# Altium footprint library Switches.PcbLib: 28 footprints (part 2 of 2)
Each footprint in its own frame and in the unit in brackets; x right, y up, seen from the top. Pads: shape width x height; smd on the part's side, far side on the other; paste and mask are expansions set on the pad; w line width, h text height; cw(c..) or ccw(c..) is an arc to the next point about the centre after c.
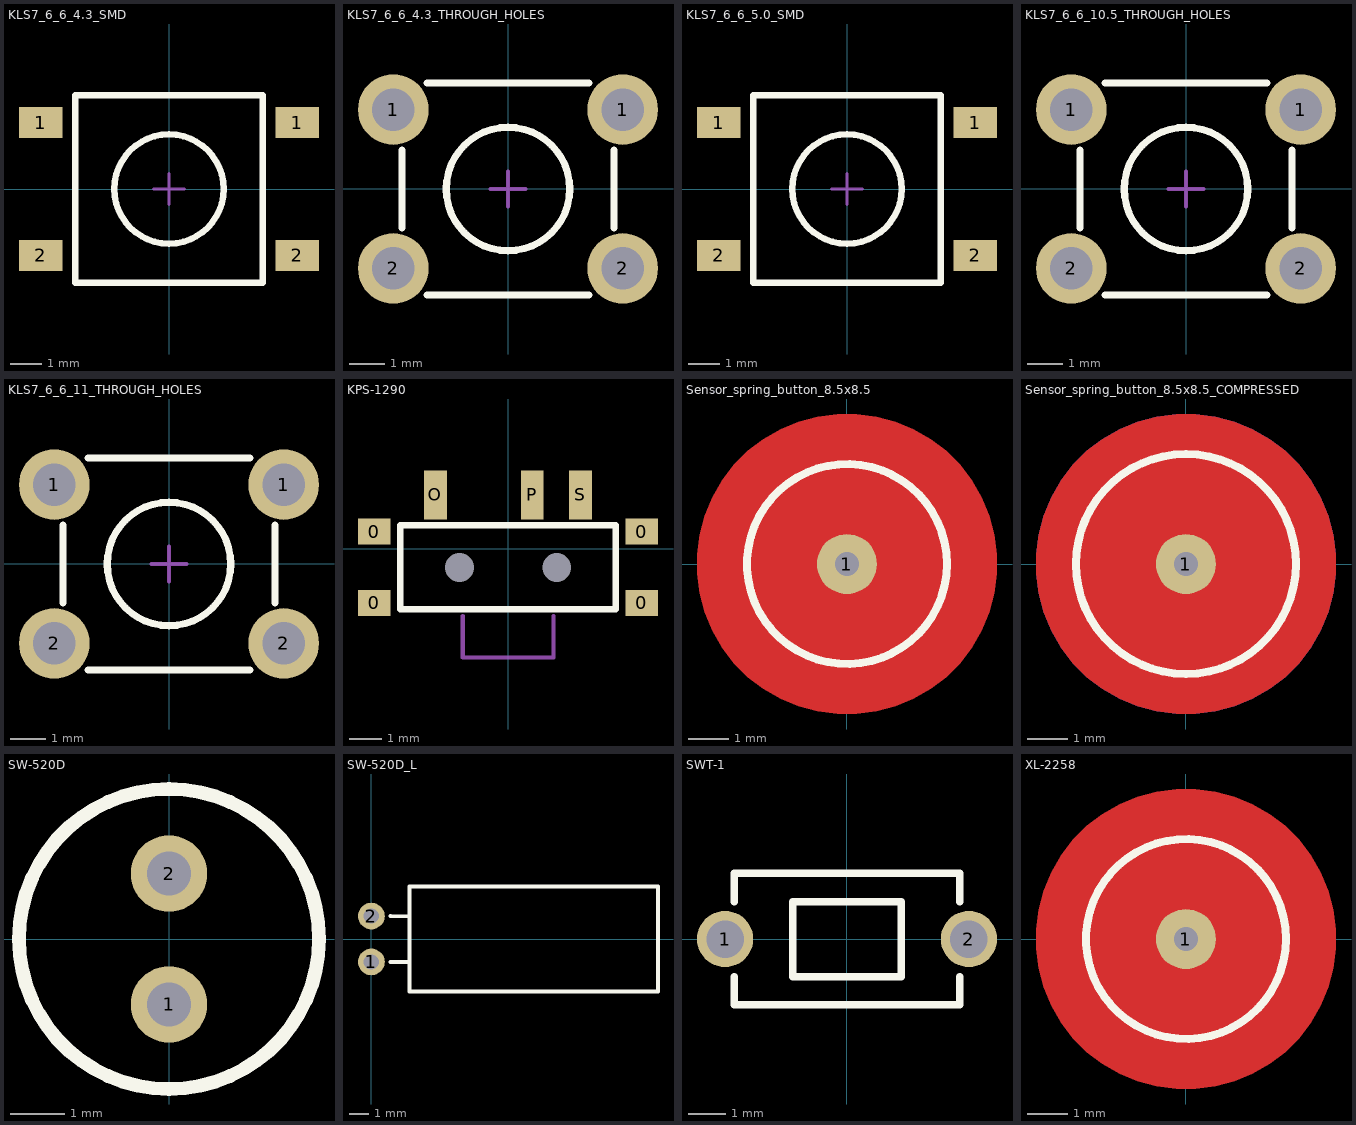
[diagram p1: the footprints below, top view; thin cyan lines are the x and y axes]

## KLS7_6_6_4.3_SMD [mm]
height 4.3
pads (4):
  rect 1.4x1 smd: 1(-4.1,2.125) 1(4.1,2.125) 2(-4.1,-2.125) 2(4.1,-2.125)
Top Overlay:
  circle w0.2: c0,0 r1.75
  lines w0.2: -3,-3 3,-3 3,3 -3,3 -3,-3
Mechanical 15:
  lines w0.1: -0.5,0 0.5,0 ; 0,-0.5 0,0.5
3D body "User Library-PTS645SL43SMTR92-LFS.STEP": height 4.3, standoff 0, extent -4.5,-3 4.5,3

## KLS7_6_6_4.3_THROUGH_HOLES [mm]
height 4.3
pads (4):
  round 2 hole 1.2: 1(-3.25,2.25) 1(3.25,2.25) 2(-3.25,-2.25) 2(3.25,-2.25)
Top Overlay:
  circle w0.2: c0,0 r1.75
  lines w0.2: -3,-1.1 -3,1.1 ; -2.3,-3 2.3,-3 ; -2.3,3 2.3,3 ; 3,-1.1 3,1.1
Mechanical 15:
  lines w0.1: -0.5,0 0.5,0 ; 0,-0.5 0,0.5
3D body "tact_switch_6x6mm3.STEP": height 4.5, standoff -3.4, extent -3.969,-3 3.969,3

## KLS7_6_6_5.0_SMD [mm]
height 5
pads (4):
  rect 1.4x1 smd: 1(-4.1,2.125) 1(4.1,2.125) 2(-4.1,-2.125) 2(4.1,-2.125)
Top Overlay:
  circle w0.2: c0,0 r1.75
  lines w0.2: -3,-3 -3,3 3,3 3,-3 -3,-3
Mechanical 15:
  lines w0.1: -0.5,0 0.5,0 ; 0,-0.5 0,0.5
3D body "User Library-PTS645SL50SMTR92-LFS.STEP": height 5, standoff 0, extent -4.5,-3 4.5,3

## KLS7_6_6_10.5_THROUGH_HOLES [mm]
height 10.5
pads (4):
  round 2 hole 1.2: 1(-3.25,2.25) 1(3.25,2.25) 2(-3.25,-2.25) 2(3.25,-2.25)
Top Overlay:
  circle w0.2: c0,0 r1.75
  lines w0.2: -3,-1.1 -3,1.1 ; -2.3,-3 2.3,-3 ; -2.3,3 2.3,3 ; 3,-1.1 3,1.1
Mechanical 15:
  lines w0.1: -0.5,0 0.5,0 ; 0,-0.5 0,0.5
3D body "tact_switch_6x6mm3.STEP": height 4.5, standoff -3.4, extent -3.969,-3 3.969,3
3D body "KLS_part_11mm.stp": height 10.5, standoff 3.8, extent -1.756,-1.75 1.744,1.75

## KLS7_6_6_11_THROUGH_HOLES [mm]
height 11
pads (4):
  round 2 hole 1.2: 1(-3.25,2.25) 1(3.25,2.25) 2(-3.25,-2.25) 2(3.25,-2.25)
Top Overlay:
  circle w0.2: c0,0 r1.75
  lines w0.2: -3,-1.1 -3,1.1 ; -2.3,-3 2.3,-3 ; -2.3,3 2.3,3 ; 3,-1.1 3,1.1
Mechanical 15:
  lines w0.1: -0.5,0 0.5,0 ; 0,-0.5 0,0.5
3D body "tact_switch_6x6mm3.STEP": height 4.5, standoff -3.4, extent -3.969,-3 3.969,3
3D body "KLS_part_11mm.stp": height 11, standoff 4.3, extent -1.756,-1.75 1.744,1.75

## KPS-1290 [mil] "KPS-1290 Движковый переключатель"
pads (9):
  rect 40x32 smd: 0(-163.69,-66.15) 0(-163.69,21.15) 0(163.69,-66.15) 0(163.69,21.15)
  round 0 hole 35.43 unplated: 1(-59.36,-22.85) 1(59.69,-22.85)
  rect 28x60 smd: O(-88.89,66.15) P(29.69,66.15) S(88.69,66.15)
Top Overlay:
  lines w8: -132.2,-74.03 131.69,-74.03 131.69,29.15 -132.2,29.15 -132.2,-74.03
Mechanical 16:
  lines w5: -55.43,-81.9 -55.43,-133.08 55.69,-133.08 55.69,-81.9
3D body "switch_kps-1290.stp": height 55.12, standoff -19.68, extent -151.88,-133.08 151.27,63.77

## Sensor_spring_button_8.5x8.5 [mm] "Sensor_spring_button_8.5x8.5"
height 8.5
pads (1):
  round 1.5 hole 0.6: 1(0,0)
Top Layer:
  pour cut-out: 0,3.75 0.246,3.75 0.733,3.686 1.208,3.558 1.662,3.37 2.088,3.125 2.478,2.825 2.825,2.478 3.125,2.088 3.37,1.662 3.559,1.208 3.686,0.733 3.75,0.245 3.75,0 3.75,-0.246 3.686,-0.733 3.559,-1.208 3.37,-1.662 3.125,-2.088 2.825,-2.478 2.478,-2.825 2.088,-3.124 1.662,-3.37 1.208,-3.558 0.733,-3.685 0.246,-3.75 0,-3.75 -0.245,-3.75 -0.733,-3.685 -1.208,-3.558 -1.662,-3.37 -2.088,-3.124 -2.478,-2.825 -2.825,-2.477 -3.124,-2.087 -3.37,-1.662 -3.558,-1.208 -3.686,-0.733 -3.75,-0.245 -3.75,0 -3.75,0.246 -3.686,0.734 -3.558,1.208 -3.37,1.662 -3.125,2.088 -2.825,2.478 -2.478,2.826 -2.088,3.125 -1.662,3.37 -1.208,3.559 -0.733,3.686 -0.246,3.75
Bottom Layer:
  pour cut-out: 0,2.5 0.246,2.5 0.729,2.404 1.184,2.215 1.594,1.942 1.942,1.594 2.215,1.184 2.404,0.729 2.5,0.246 2.5,0 2.5,-0.246 2.404,-0.729 2.215,-1.184 1.942,-1.594 1.594,-1.942 1.184,-2.215 0.729,-2.404 0.246,-2.5 0,-2.5 -0.246,-2.5 -0.729,-2.404 -1.184,-2.215 -1.593,-1.942 -1.942,-1.594 -2.215,-1.184 -2.404,-0.729 -2.5,-0.246 -2.5,0 -2.5,0.246 -2.404,0.729 -2.215,1.184 -1.942,1.594 -1.594,1.942 -1.184,2.215 -0.729,2.404 -0.246,2.5
Top Overlay:
  circle w0.2: c0,0 r2.5
3D body "Spring_8.5x8.5.STEP": height 8.43, standoff -2.81, extent -4.4,-3.976 4.117,4.251

## Sensor_spring_button_8.5x8.5_COMPRESSED [mm] "Sensor_spring_button_8.5x8.5"
height 6
pads (1):
  round 1.5 hole 0.6: 1(0,0)
Top Layer:
  pour cut-out: 0,3.75 0.246,3.75 0.733,3.686 1.208,3.558 1.662,3.37 2.088,3.125 2.478,2.825 2.825,2.478 3.125,2.088 3.37,1.662 3.559,1.208 3.686,0.733 3.75,0.245 3.75,0 3.75,-0.246 3.686,-0.733 3.559,-1.208 3.37,-1.662 3.125,-2.088 2.825,-2.478 2.478,-2.825 2.088,-3.124 1.662,-3.37 1.208,-3.558 0.733,-3.685 0.246,-3.75 0,-3.75 -0.245,-3.75 -0.733,-3.685 -1.208,-3.558 -1.662,-3.37 -2.088,-3.124 -2.478,-2.825 -2.825,-2.477 -3.124,-2.087 -3.37,-1.662 -3.558,-1.208 -3.686,-0.733 -3.75,-0.245 -3.75,0 -3.75,0.246 -3.686,0.734 -3.558,1.208 -3.37,1.662 -3.125,2.088 -2.825,2.478 -2.478,2.826 -2.088,3.125 -1.662,3.37 -1.208,3.559 -0.733,3.686 -0.246,3.75
Bottom Layer:
  pour cut-out: 0,3.75 0.246,3.75 0.733,3.686 1.208,3.558 1.662,3.37 2.088,3.125 2.478,2.825 2.825,2.478 3.125,2.088 3.37,1.662 3.559,1.208 3.686,0.733 3.75,0.245 3.75,0 3.75,-0.246 3.686,-0.733 3.559,-1.208 3.37,-1.662 3.125,-2.088 2.825,-2.478 2.478,-2.825 2.088,-3.124 1.662,-3.37 1.208,-3.558 0.733,-3.685 0.246,-3.75 0,-3.75 -0.245,-3.75 -0.733,-3.685 -1.208,-3.558 -1.662,-3.37 -2.088,-3.124 -2.478,-2.825 -2.825,-2.477 -3.124,-2.087 -3.37,-1.662 -3.558,-1.208 -3.686,-0.733 -3.75,-0.245 -3.75,0 -3.75,0.246 -3.686,0.734 -3.558,1.208 -3.37,1.662 -3.125,2.088 -2.825,2.478 -2.478,2.826 -2.088,3.125 -1.662,3.37 -1.208,3.559 -0.733,3.686 -0.246,3.75
Top Overlay:
  circle w0.2: c0,0 r2.75
3D body "Spring_8.5x8.5_compressed_bottom.STEP": height 2.03, standoff -2.71, extent -2.75,-2.748 2.749,2.749
3D body "Spring_8.5x8.5_compressed_top2.STEP": height 5, standoff 3.32, extent -4.219,-4.081 4.219,4.081

## SW-520D [mm] "Roll Ball Switch"
height 13.5
pads (2):
  round 1.4 hole 0.8: 1(0,-1.2) 2(0,1.2)
Top Overlay:
  circle w0.25: c0,0 r2.75
3D body "SW-520D.STEP": height 13.5, standoff -2.5, extent -2.75,-2.75 2.75,2.75

## SW-520D_L [mm] "Roll Ball Switch"
height 5.5
pads (2):
  round 1.4 hole 0.8: 1(0,-1.2) 2(0,1.2)
Top Overlay:
  lines w0.2: 1,-1.2 2,-1.2 ; 1,1.2 2,1.193 ; 15,2.75 15,-2.75 2,-2.75 2,2.75 15,2.75
3D body "SWD-520_hor.STEP": height 5.5, standoff -2.5, extent -0.3,-2.75 15,2.75

## SWT-1 [mm] "Тактовая кнопка SWT-1 (ф. Бурый Медведь)"
height 4.3
pads (2):
  round 1.5 hole 1: 1(-3.25,0) 2(3.25,0)
Top Overlay:
  lines w0.2: -3,-1 -3,-1.75 3,-1.75 3,-1 ; -3,1 -3,1.75 3,1.75 3,1 ; -1.45,-1 1.45,-1 1.45,1 -1.45,1 -1.45,-1
3D body: height 3.5, standoff 0, extent -3,-1.75 3,1.75
3D body: height 3.6, standoff 0.8, extent -1.5,-1 1.5,1

## XL-2258 [mm] "Sensor Spring XL-2258"
height 6
pads (1):
  round 1.5 hole 0.6: 1(0,0)
Top Layer:
  pour cut-out: 0,3.75 0.246,3.75 0.733,3.686 1.208,3.558 1.662,3.37 2.088,3.125 2.478,2.825 2.825,2.478 3.125,2.088 3.37,1.662 3.559,1.208 3.686,0.733 3.75,0.245 3.75,0 3.75,-0.246 3.686,-0.733 3.559,-1.208 3.37,-1.662 3.125,-2.088 2.825,-2.478 2.478,-2.825 2.088,-3.124 1.662,-3.37 1.208,-3.558 0.733,-3.685 0.246,-3.75 0,-3.75 -0.245,-3.75 -0.733,-3.685 -1.208,-3.558 -1.662,-3.37 -2.088,-3.124 -2.478,-2.825 -2.825,-2.477 -3.124,-2.087 -3.37,-1.662 -3.558,-1.208 -3.686,-0.733 -3.75,-0.245 -3.75,0 -3.75,0.246 -3.686,0.734 -3.558,1.208 -3.37,1.662 -3.125,2.088 -2.825,2.478 -2.478,2.826 -2.088,3.125 -1.662,3.37 -1.208,3.559 -0.733,3.686 -0.246,3.75
Bottom Layer:
  pour cut-out: 0,2.5 0.246,2.5 0.729,2.404 1.184,2.215 1.594,1.942 1.942,1.594 2.215,1.184 2.404,0.729 2.5,0.246 2.5,0 2.5,-0.246 2.404,-0.729 2.215,-1.184 1.942,-1.594 1.594,-1.942 1.184,-2.215 0.729,-2.404 0.246,-2.5 0,-2.5 -0.246,-2.5 -0.729,-2.404 -1.184,-2.215 -1.593,-1.942 -1.942,-1.594 -2.215,-1.184 -2.404,-0.729 -2.5,-0.246 -2.5,0 -2.5,0.246 -2.404,0.729 -2.215,1.184 -1.942,1.594 -1.594,1.942 -1.184,2.215 -0.729,2.404 -0.246,2.5
Top Overlay:
  circle w0.2: c0,0 r2.5
3D body "Sensor_Spring_XL-2258.STEP": height 6.22, standoff -2.8, extent -4,-4 4,4